# Altium footprint library PBD2-10R.PcbLib: 1 footprints
Each footprint in its own frame and in the unit in brackets; x right, y up, seen from the top. Pads: shape width x height; smd on the part's side, far side on the other; paste and mask are expansions set on the pad; w line width, h text height; cw(c..) or ccw(c..) is an arc to the next point about the centre after c.
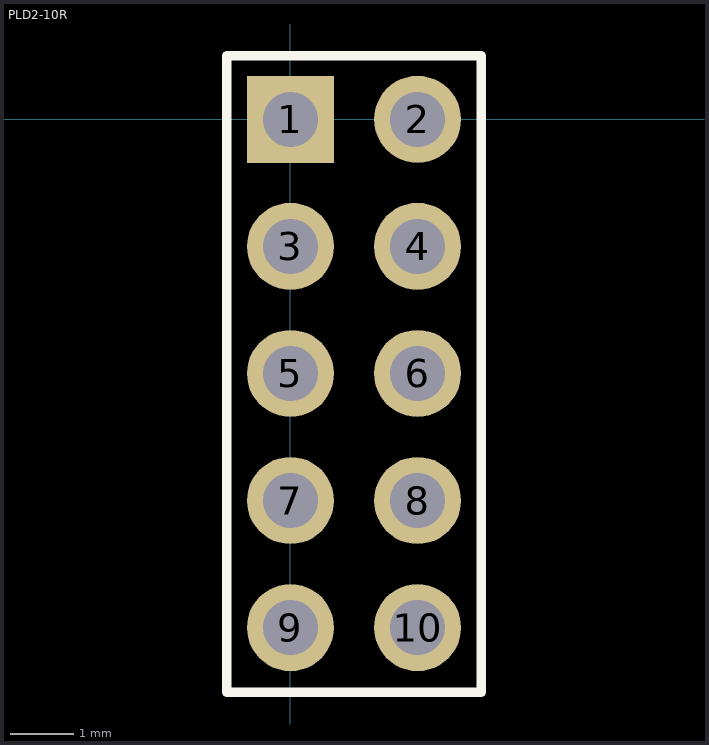
[diagram p0: the footprint, top view; thin cyan lines are the x and y axes]

## PLD2-10R [mil]
pads (10):
  rect 54x54 hole 34: 1(0,0)
  round 54 hole 34: 2(78.74,0) 3(0,-78.74) 4(78.74,-78.74) 5(0,-157.48) 6(78.74,-157.48) 7(0,-236.22) 8(78.74,-236.22) 9(0,-314.96) 10(78.74,-314.96)
Top Overlay:
  lines w5.91: -39.37,-355 118.11,-355 118.11,39.37 -39.37,39.37 -39.37,-355
3D body "PLD2-10R.STEP": height 159.48, standoff -76.74, extent -12.95,-353.7 351.22,36.06